# Altium footprint library PcbLib_ADH.PcbLib: 136 footprints (part 6 of 9)
Each footprint in its own frame and in the unit in brackets; x right, y up, seen from the top. Pads: shape width x height; smd on the part's side, far side on the other; paste and mask are expansions set on the pad; w line width, h text height; cw(c..) or ccw(c..) is an arc to the next point about the centre after c.
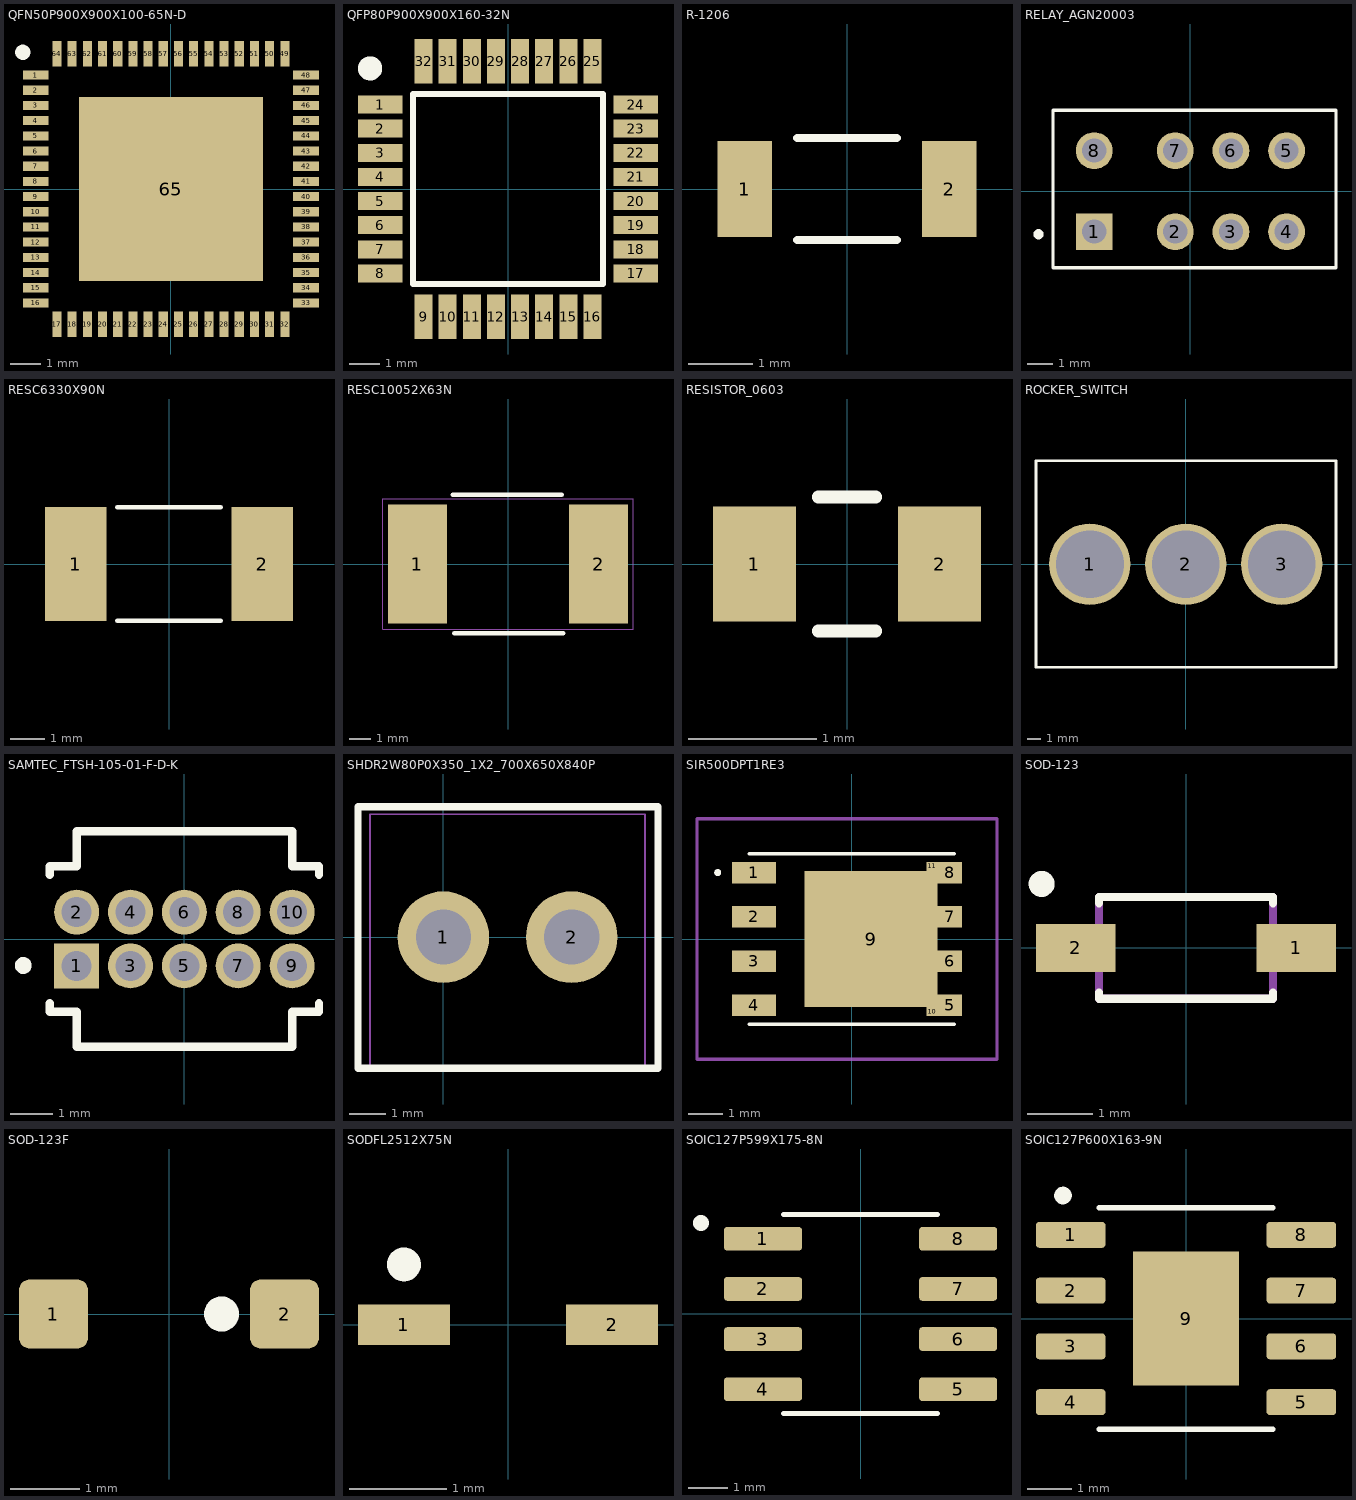
[diagram p5: the footprints below, top view; thin cyan lines are the x and y axes]

## QFN50P900X900X100-65N-D [mm]
pads (65):
  rect 0.85x0.3 smd: 1(-4.45,3.75) 2(-4.45,3.25) 3(-4.45,2.75) 4(-4.45,2.25) 5(-4.45,1.75) 6(-4.45,1.25) 7(-4.45,0.75) 8(-4.45,0.25) 9(-4.45,-0.25) 10(-4.45,-0.75) 11(-4.45,-1.25) 12(-4.45,-1.75) 13(-4.45,-2.25) 14(-4.45,-2.75) 15(-4.45,-3.25) 16(-4.45,-3.75) 33(4.45,-3.75) 34(4.45,-3.25) 35(4.45,-2.75) 36(4.45,-2.25) 37(4.45,-1.75) 38(4.45,-1.25) 39(4.45,-0.75) 40(4.45,-0.25) 41(4.45,0.25) 42(4.45,0.75) 43(4.45,1.25) 44(4.45,1.75) 45(4.45,2.25) 46(4.45,2.75) 47(4.45,3.25) 48(4.45,3.75)
  rect 0.3x0.85 smd: 17(-3.75,-4.45) 18(-3.25,-4.45) 19(-2.75,-4.45) 20(-2.25,-4.45) 21(-1.75,-4.45) 22(-1.25,-4.45) 23(-0.75,-4.45) 24(-0.25,-4.45) 25(0.25,-4.45) 26(0.75,-4.45) 27(1.25,-4.45) 28(1.75,-4.45) 29(2.25,-4.45) 30(2.75,-4.45) 31(3.25,-4.45) 32(3.75,-4.45) 49(3.75,4.45) 50(3.25,4.45) 51(2.75,4.45) 52(2.25,4.45) 53(1.75,4.45) 54(1.25,4.45) 55(0.75,4.45) 56(0.25,4.45) 57(-0.25,4.45) 58(-0.75,4.45) 59(-1.25,4.45) 60(-1.75,4.45) 61(-2.25,4.45) 62(-2.75,4.45) 63(-3.25,4.45) 64(-3.75,4.45)
  rect 6.05x6.05 smd: 65(0,0)
Top Overlay:
  circle w0.25: c-4.875,4.5 r0.125
3D body "TUSB8041IRGCR.stp": height 1, standoff 0, extent -4.5,-4.5 4.5,4.5

## QFP80P900X900X160-32N [mm]
pads (32):
  rect 1.475x0.6 smd: 1(-4.238,2.8) 2(-4.238,2) 3(-4.238,1.2) 4(-4.238,0.4) 5(-4.238,-0.4) 6(-4.238,-1.2) 7(-4.238,-2) 8(-4.238,-2.8) 17(4.238,-2.8) 18(4.238,-2) 19(4.238,-1.2) 20(4.238,-0.4) 21(4.238,0.4) 22(4.238,1.2) 23(4.238,2) 24(4.238,2.8)
  rect 0.6x1.475 smd: 9(-2.8,-4.238) 10(-2,-4.238) 11(-1.2,-4.238) 12(-0.4,-4.238) 13(0.4,-4.238) 14(1.2,-4.238) 15(2,-4.238) 16(2.8,-4.238) 25(2.8,4.238) 26(2,4.238) 27(1.2,4.238) 28(0.4,4.238) 29(-0.4,4.238) 30(-1.2,4.238) 31(-2,4.238) 32(-2.8,4.238)
Top Overlay:
  circle w0.4: c-4.575,4 r0.2
  lines w0.2: -3.15,-3.15 3.15,-3.15 3.15,3.15 -3.15,3.15 -3.15,-3.15
3D body "STM32G441KBT6.stp": height 1.6, standoff 0, extent -4.5,-4.5 4.5,4.5

## R-1206 [mm]
pads (2):
  rect 0.85x1.5 smd: 1(-1.6,0) 2(1.6,0)
Top Overlay:
  lines w0.127: -0.78,-0.8 0.78,-0.8 ; -0.78,0.8 0.78,0.8
3D body "ERJ-U08J154V.STEP": height 0.58, standoff -0.02, extent -1.6,-0.8 1.6,0.8

## RELAY_AGN20003 [mm]
height 9.3
pads (8):
  rect 1.458x1.458 / inner round 1.458 / far side rect 1.458x1.458 hole 0.95: 1(-3.8,-1.6)
  round 1.458 hole 0.95: 2(-0.6,-1.6) 3(1.6,-1.6) 4(3.8,-1.6) 5(3.8,1.6) 6(1.6,1.6) 7(-0.6,1.6) 8(-3.8,1.6)
Top Overlay:
  circle w0.2: c-6,-1.7 r0.1
  lines w0.127: -5.425,-3.025 5.75,-3.025 5.75,3.2 -5.425,3.2 -5.425,-3.025
3D body "RELAY_AGN_PAN.step": height 9.3, standoff -0.51, extent -5.299,-2.921 5.598,3.074

## RESC6330X90N [mm]
pads (2):
  rect 1.78x3.31 smd: 1(-2.718,0) 2(2.718,0)
Top Overlay:
  lines w0.127: -1.51,-1.65 1.51,-1.65 ; -1.51,1.65 1.51,1.65
3D body "PSR100KTQFH1L00--3DModel-STEP-1.STEP": height 0.91, standoff 0.01, extent -3.175,-1.525 3.175,1.525

## RESC10052X63N [mm]
pads (2):
  rect 2.7x5.45 smd: 1(-4.15,0) 2(4.15,0)
Top Overlay:
  lines w0.2: -2.54,3.175 2.46,3.175 ; -2.46,-3.175 2.54,-3.175
Mechanical 20:
  lines w0.05: -5.75,-3 5.75,-3 5.75,3 -5.75,3 -5.75,-3
3D body "User Library-WSL3921.STEP": height 0.83, standoff 0, extent -4.873,-2.54 5.127,2.66

## RESISTOR_0603 [mm]
pads (2):
  rect 0.65x0.9 smd: 1(-0.725,0) 2(0.725,0)
Top Overlay:
  lines w0.1: -0.225,-0.525 0.225,-0.525 ; -0.225,0.525 0.225,0.525
3D body "User Library-CR1608-0603.STEP": height 0.41, standoff -0.04, extent -0.825,-0.4 0.775,0.4

## ROCKER_SWITCH [mm]
pads (3):
  round 6 hole 5: 1(-7.075,0) 2(0,0) 3(7.075,0)
Top Overlay:
  lines w0.2: -11.05,-7.6 11.075,-7.6 11.075,7.625 -11.05,7.625 -11.05,-7.6
3D body "Rocker Switch - On-Off-On 05.step": height 18.41, standoff -3.5, extent -10.95,-7.475 10.966,7.525

## SAMTEC_FTSH-105-01-F-D-K [mm]
pads (10):
  rect 1.06x1.06 hole 0.71: 1(-2.54,-0.635)
  round 1.06 hole 0.71: 2(-2.54,0.635) 3(-1.27,-0.635) 4(-1.27,0.635) 5(0,-0.635) 6(0,0.635) 7(1.27,-0.635) 8(1.27,0.635) 9(2.54,-0.635) 10(2.54,0.635)
Top Overlay:
  circle w0.2: c-3.8,-0.625 r0.1
  lines w0.2: -3.175,-1.515 -3.175,-1.715 -2.54,-1.715 -2.54,-2.54 2.54,-2.54 2.54,-1.715 3.175,-1.715 3.175,-1.515 ; -3.175,1.515 -3.175,1.715 -2.54,1.715 -2.54,2.54 2.54,2.54 2.54,1.715 3.175,1.715 3.175,1.515
3D body "FTSH-105-01-F-D-K.stp": height 5.73, standoff -2.27, extent -3.175,-2.54 3.175,2.54

## SHDR2W80P0X350_1X2_700X650X840P [mm]
pads (2):
  round 2.5 hole 1.5: 1(0,0) 2(3.5,0)
Top Overlay:
  lines w0.2: -2.325,-3.575 -2.325,3.55 5.85,3.55 5.85,-3.575 -2.325,-3.575
Mechanical 20:
  lines w0.05: -2,-3.65 5.5,-3.65 5.5,3.35 -2,3.35 -2,-3.65
3D body "2445P Screw Terminal Block- 2 Pin, 3.5mm Pitch, Side Entry.STEP": height 8.41, standoff -3.48, extent -2.15,-3.425 5.65,3.375

## SIR500DPT1RE3 [mm]
pads (11):
  rect 1.27x0.61 smd: 1(-2.81,1.905) 2(-2.81,0.635) 3(-2.81,-0.635) 4(-2.81,-1.905)
  rect 0.71x0.61 smd: 5(2.81,-1.905) 6(2.81,-0.635) 7(2.81,0.635) 8(2.81,1.905)
  rect 3.81x3.91 smd: 9(0.55,0)
  rect 0.31x0.255 smd: 10(2.3,-2.083) 11(2.3,2.083)
Top Overlay:
  lines w0.1: -2.945,-2.45 2.945,-2.45 ; -2.945,2.45 2.945,2.45 ; -3.9,1.905 cw(c-3.85,1.905) -3.8,1.905 cw(c-3.85,1.905) -3.9,1.905
Mechanical 20:
  lines w0.1: -4.445,-3.45 4.165,-3.45 4.165,3.45 -4.445,3.45 -4.445,-3.45
3D body "SIR500DP-T1-RE3.stp": height 1.27, standoff 0, extent -3.244,-2.45 3.244,2.45

## SOD-123 [mm]
pads (2):
  rect 1.21x0.73 smd: 1(1.68,0) 2(-1.68,0)
Top Overlay:
  circle w0.254: c-2.2,0.975 r0.071
  lines w0.127: -1.325,-0.679 -1.325,-0.775 1.325,-0.775 1.325,-0.679 ; -1.325,0.679 -1.325,0.775 1.325,0.775 1.325,0.679
Mechanical 13:
  lines w0.127: -1.325,-0.775 -1.325,0.775 1.325,0.775 1.325,-0.775 -1.325,-0.775
3D body "step_temp.STEP": height 1.44, standoff -0.01, extent -1.825,-0.775 1.825,0.775

## SOD-123F [mm] "SMD"
pads (2):
  rrect30% 1x1 smd: 1(-1.675,0) 2(1.675,0)
Top Overlay:
  circle w0.254: c0.762,0 r0.127
3D body "p35_SOD-123F.stp": height 1, standoff 0, extent -1.9,-0.8 1.9,0.8

## SODFL2512X75N [mm]
pads (2):
  rect 0.95x0.42 smd: 1(-1.075,0) 2(1.075,0)
Top Overlay:
  lines w0.2: -1.005,0.653 ccw(c-1.075,0.625) -1,0.625
3D body "DDZ22BSF-7.stp": height 0.75, standoff 0, extent -1.25,-0.625 1.25,0.625

## SOIC127P599X175-8N [mm]
pads (8):
  rrect25% 1.97x0.6 smd: 1(-2.47,1.905) 2(-2.47,0.635) 3(-2.47,-0.635) 4(-2.47,-1.905) 5(2.47,-1.905) 6(2.47,-0.635) 7(2.47,0.635) 8(2.47,1.905)
Top Overlay:
  circle w0.2: c-4.04,2.305 r0.1
  lines w0.127: -1.95,-2.525 1.95,-2.525 ; -1.95,2.525 1.95,2.525
3D body "step_temp.STEP": height 1.75, standoff 0, extent -2.997,-2.451 2.997,2.451

## SOIC127P600X163-9N [mm]
pads (9):
  rrect25% 1.58x0.59 smd: 1(-2.625,1.905) 2(-2.625,0.635) 3(-2.625,-0.635) 4(-2.625,-1.905) 5(2.625,-1.905) 6(2.625,-0.635) 7(2.625,0.635) 8(2.625,1.905)
  rect 2.41x3.05 smd paste-3: 9(0,0)
Top Overlay:
  circle w0.2: c-2.8,2.8 r0.1
  lines w0.127: -1.975,-2.52 1.975,-2.52 ; -1.975,2.52 1.975,2.52
Top Paste:
  region: 0.603,-0.762 -0.603,-0.762 -0.603,0.762 0.603,0.762
3D body "step_temp.STEP": height 1.63, standoff 0, extent -3,-2.45 3,2.45